# Altium schematic symbol library MAX86174AENE&plus_T.SchLib: 1 symbol
Pins are listed as number, name and electrical type; pins without a type are passive.

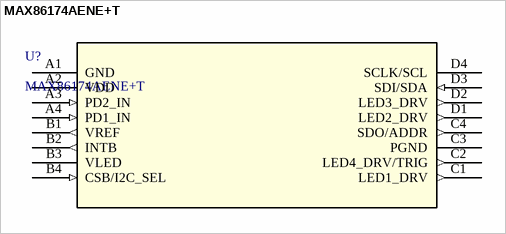
[diagram p0: symbol MAX86174AENE+T]

## MAX86174AENE+T
designator U?
Best-in-Class Optical Pulse Oximeter and Heart-Rate Sensor AFE for Wearable Health; Manufacturer_Name: Analog Devices Inc; Copyright: Copyright (C) 2025 Ultra Librarian. All rights reserved.; Manufacturer_Part_Number: MAX86174AENE+T; RefDes: RefDes; Type: Type
footprint 21-100454_N161B1+1_MXM
pins: A1 GND (power), A2 VDD (power), A3 PD2_IN (in), A4 PD1_IN (in), B1 VREF (out), B2 INTB (out), B3 VLED (power), B4 CSB/I2C_SEL (in), C1 LED1_DRV (out), C2 LED4_DRV/TRIG (out), C3 PGND (power), C4 SDO/ADDR (out), D1 LED2_DRV (out), D2 LED3_DRV (out), D3 SDI/SDA (in), D4 SCLK/SCL